# EAGLE library part LT3740 (library PowerProducts)
Wide Operating Range, Valley Mode, No RSENSE Synchronous Step-Down Controller
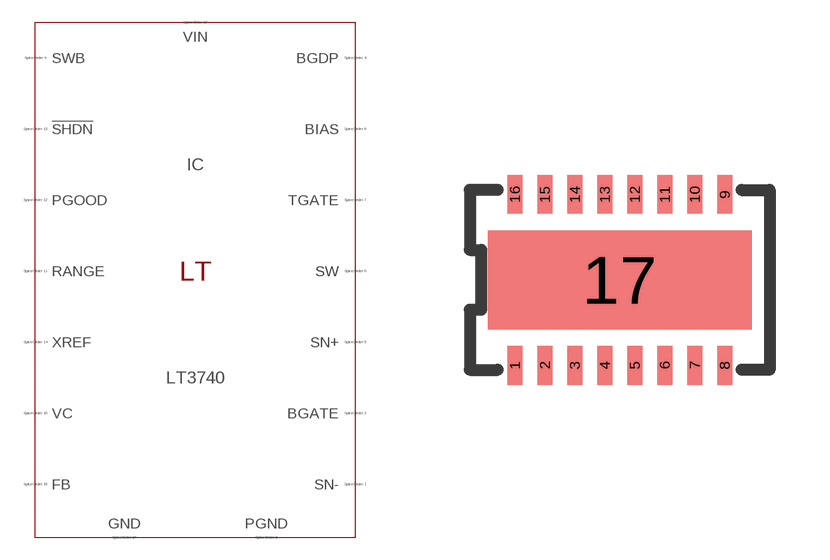
[diagram p7: symbol with the pads of DFN16(DHC); footprint DFN16(DHC)]

Designator prefix IC

## LT3740 (SPICEMODEL: LT1762.lib; SPICEPREFIX: X; VALUE2: LT1762)  [DFN16(DHC)]
1  SN-  pas
2  PGND  pas
3  BGATE  pas
4  BGDP  pas
5  SN+  pas
6  SW  pas
7  TGATE  pas
8  BIAS  pas
9  SWB  pas
10  VIN  pas
11  RANGE  pas
12  PGOOD  pas
13  !SHDN  pas
14  XREF  pas
15  FB  pas
16  VC  pas
17  GND  pas

## Footprint DFN16(DHC) (pad centres in mm)
Package generated from: DFN16(DHC).asc (!PADS-POWERPCB-V5.0-BASIC! DESIGN DATABASE ASCII FILE 1.0) with :import-pads-powerpcb-v5.ulp Version 1.0.1 at 04.10.2012 14:11:17
smd 0.375 x 0.975: 1 -2.625,-2.138; 2 -1.875,-2.138; 3 -1.125,-2.138; 4 -0.375,-2.138; 5 0.375,-2.138; 6 1.125,-2.138; 7 1.875,-2.138; 8 2.625,-2.138; 9 2.625,2.138; 10 1.875,2.138; 11 1.125,2.138; 12 0.375,2.138; 13 -0.375,2.138; 14 -1.125,2.138; 15 -1.875,2.138; 16 -2.625,2.138
smd 6.6 x 2.475: 17 0,0